# EAGLE library part BQ51013B (library Tristan+Robitaille_s+Library)
bq51013B Highly Integrated Wireless Receiver Qi (WPC v1.1) Compliant Power Supply Technical specifications: Overall Peak AC-DC Efficiency: 93% Max. output power: 5W Max. input voltage: 20V WPC v1.1 compatible Datasheet <http://www.ti.com/lit/ds/symlink/bq51013b.pdf> Digi-Key part #: 296-38885-1-ND <http://www.digikey.ca/product-detail/en/texas-instruments/BQ51013BRHLR/296-38885-1-ND/5142996> Mouser part #: 595-BQ51013BRHLR <http://ca.mouser.com/ProductDetail/Texas-Instruments/BQ51013BRHLR/?qs=sGAEpiMZZMvsTkZFiuFJv1SkkRCmiBHpdwNIq2qzVOU%3d> Manufacturer part #: BQ51013BRHLR
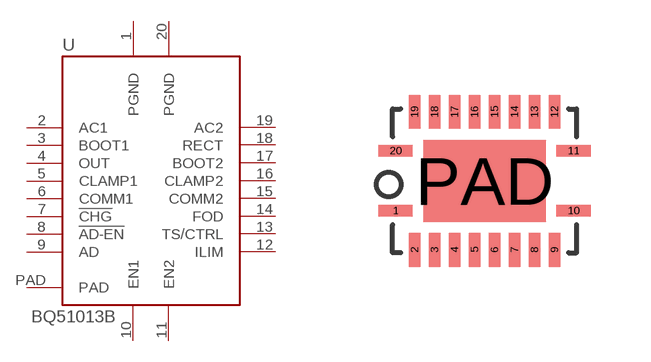
[diagram p19: symbol with the pads of S-PVQFN_N20; footprint S-PVQFN_N20]

Designator prefix U

## BQ51013B (DIGIKEY#: 296-38885-1-ND; MANF: bq51013B Qi Wireless Receiver; MANF#: BQ51013BRHLR; MOUSER#: 595-BQ51013BRHLR)  [S-PVQFN_N20]
1  PGND  pwr
2  AC1  in
3  BOOT1  out
4  OUT  out
5  CLAMP1  out
6  COMM1  out
7  !CHG  out
8  !AD-EN  out
9  AD  in
10  EN1  in
11  EN2  in
12  ILIM
13  TS/CTRL  in
14  FOD  in
15  COMM2  out
16  CLAMP2  out
17  BOOT2  out
18  RECT  out
19  AC2  in
20  PGND  pwr
PAD  PAD

## Footprint S-PVQFN_N20 (pad centres in mm)
smd 0.85 x 0.28: 1 -2.225,-0.75; 10 2.225,-0.75; 11 2.225,0.75; 20 -2.225,0.75
smd 0.28 x 0.85: 2 -1.75,-1.725; 3 -1.25,-1.725; 4 -0.75,-1.725; 5 -0.25,-1.725; 6 0.25,-1.725; 7 0.75,-1.725; 8 1.25,-1.725; 9 1.75,-1.725; 12 1.75,1.725; 13 1.25,1.725; 14 0.75,1.725; 15 0.25,1.725; 16 -0.25,1.725; 17 -0.75,1.725; 18 -1.25,1.725; 19 -1.75,1.725
smd 3.05 x 2.05: PAD 0,0